# Altium integrated library USB-RIAA.IntLib: 37 symbols
Pins are listed as number, name and electrical type; pins without a type are passive.

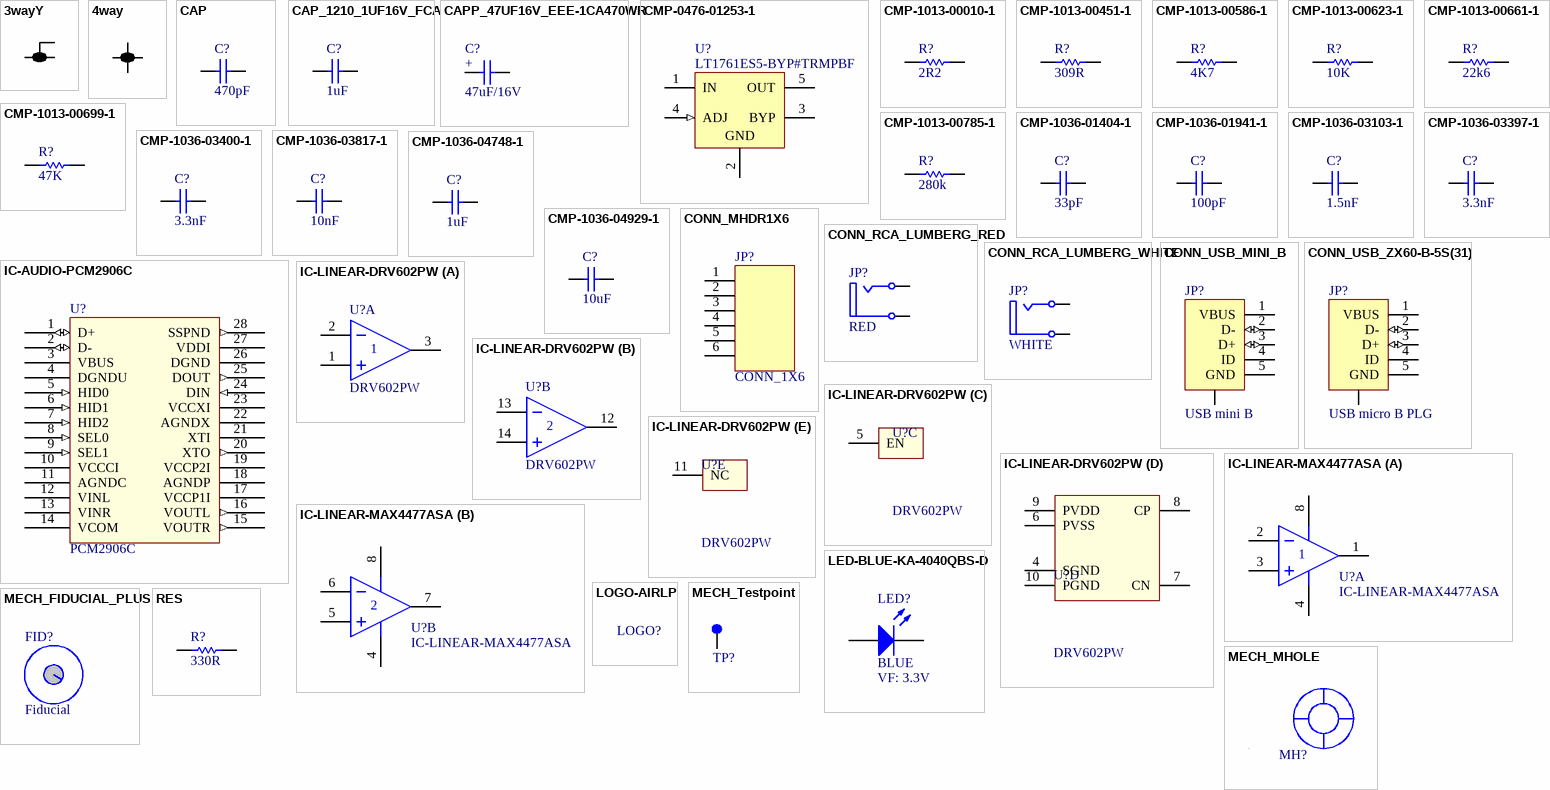
[diagram p0: symbols 3wayY to RES]

## 3wayY
designator J?, comment 3 way net tie junction Y shape  (value not drawn)  (net tie, no BOM)
ComponentLink1URL: http://www.edatools.cz/addons; ComponentLink1Description: Source; FootprintNote: LP=12mil, MP=40mil, HP=120mil
footprint 3wayY_LP (3 way low power net tie Y shape junction)
footprint 3wayY_MP (3 way medium power net tie Y shape junction)
footprint 3wayY_HP (3 way high power power net tie Y shape junction)
pins: 1, 2, 3
1 alternate drawing of the same symbol

## 4way
designator J?, comment 4 way net tie junction  (value not drawn)  (net tie, no BOM)
Note: 2 display modes available; ComponentLink1URL: http://www.edatools.cz/addons; ComponentLink1Description: Source; FootprintNote: LP=12mil, MP=40mil, HP=120mil
footprint 4way_LP (4 way low power net tie junction)
footprint 4way_MP (4 way medium power net tie junction)
footprint 4way_HP (4 way high power power net tie junction)
pins: 1, 2, 3, 4
1 alternate drawing of the same symbol

## CAP
designator C?  value 470pF  (hidden comment: CAP)
Generic capacitor non polarised
footprint CAPC0402(1005)33_L (Chip Capacitor, Body 1.0x0.5mm, Height 0.33mm, IPC High Density)
footprint CAPC0402(1005)33_M (Chip Capacitor, Body 1.0x0.5mm, Height 0.33mm, IPC Low Density)
footprint CAPC0402(1005)33_N (Chip Capacitor, Body 1.0x0.5mm, Height 0.33mm, IPC Medium Density)
footprint CAPC0603(1608)55_L (Chip Capacitor, Body 1.6x0.8mm, Height 0.55mm, IPC High Density)
footprint CAPC0603(1608)55_N (Chip Capacitor, Body 1.6x0.8mm, Height 0.55mm, IPC Medium Density)
footprint CAPC0603(1608)55_M (Chip Capacitor, Body 1.6x0.8mm, Height 0.55mm, IPC Low Density)
footprint CAPC0805(2012)75_L (Chip Capacitor, Body 2.0x1.2mm, Height 0.75mm, IPC High Density)
footprint CAPC0805(2012)75_M (Chip Capacitor, Body 2.0x1.2mm, Height 0.75mm, IPC Low Density)
footprint CAPC0805(2012)75_N (Chip Capacitor, Body 2.0x1.2mm, Height 0.75mm, IPC Medium Density)
footprint CAPC1206(3216)75_L (Chip Capacitor, Body 3.2x1.6mm, Height 0.75mm, IPC High Density)
footprint CAPC1206(3216)75_M (Chip Capacitor, Body 3.2x1.6mm, Height 0.75mm, IPC Low Density)
footprint CAPC1206(3216)75_N (Chip Capacitor, Body 3.2x1.6mm, Height 0.75mm, IPC Medium Density)
footprint CAPC1210(3225)345_L (Chip Capacitor, Body 3.2x2.5mm, Height 3.45mm, IPC High Density)
footprint CAPC1210(3225)345_M (Chip Capacitor, Body 3.2x2.5mm, Height 3.45mm, IPC Low Density)
footprint CAPC1210(3225)345_N (Chip Capacitor, Body 3.2x2.5mm, Height 3.45mm, IPC Medium Density)
pins: 1, 2
1 alternate drawing of the same symbol

## CAP_1210_1UF16V_FCA
designator C?, comment value 1uF  (hidden comment: FCA1210C105M-G2)
CAP FILM 1UF 20% 16VDC 1210; Voltage: 16V; PackageReference: 1210; FARNELL: 2112915; MPN: FCA1210C105M-G2; DigiKey: 338-2778-2-ND
footprint CAPC1210(3225)135_L (Chip Capacitor, Body 3.2x2.5mm, Height 1.35mm, IPC High Density)
footprint CAPC1210(3225)135_M (Chip Capacitor, Body 3.2x2.5mm, Height 1.35mm, IPC Low Density)
footprint CAPC1210(3225)135_N (Chip Capacitor, Body 3.2x2.5mm, Height 1.35mm, IPC Medium Density)
pins: 1, 2

## CAPP_47UF16V_EEE-1CA470WR
designator C?, comment 47uF/16V
47µF 16V Aluminum Electrolytic Capacitors Radial, Can - SMD 1000 Hrs @ 85°C; MPN: EEE-1CA470WR; Value: 47uF/16V; Farnell: 2753042; DigiKey: PCE3890TR-ND
footprint CAPP_5x5.4 (CAPP 5 x 5.4 mm)
pins: 1, 2
text: +

## CMP-0476-01253-1
designator U?, comment LT1761ES5-BYP#TRMPBF
100 mA, Low Noise, LDO Micropower Regulator, 1.8 to 20 V Vin, Adjustable Vout, 5-pin SOT23 (S5-5), -40 to 125 degC, Pb-Free, Mini Tape and Reel; Manufacturer: Linear Technology; Vin Min(V): 1.8; Output Voltage: Adj; PSRR(dB): 65; Dropout Voltage(V): 0.3; Vout Max(V): 20; Vout Min(V): 1.22; Isupply(mA): 0.02; Shutdown Current(uA): 1; Discrete Pass Element: no; Iout(mA): 100; PackageReference: S5-5; ComponentLink3Description: Package Specification; Packing: Mini Tape and Reel; ComponentLink2Description: Datasheet; RoHS: TRUE; Code_JEDEC: MO-193; ComponentLink2URL: http://cds.linear.com/docs/en/datasheet/1761sff.pdf; ComponentLink1Description: Manufacturer URL; Mounting Technology: Surface Mount; Number of Outputs: 1; PackageDescription: 5-Pin Plastic TSOT-23, Body 1.63 x 2.90 mm, Pitch 0.95 mm; Vin Max(V): 20; DatasheetVersion: Rev. F; PartNumber: LT1761ES5-BYP#TRMPBF; ComponentLink3URL: http://cds.linear.com/docs/en/packaging/SOT_5_05-08-1635.pdf; ComponentLink1URL: http://www.linear.com/; PackageVersion: Jun-10; Noise(uV): 20
footprint LT-S5-5-TSOT-23_N (SOT23, 5-Leads, Body 2.90x1.63mm, Pitch 0.95mm, IPC Medium Density)
footprint LT-S5-5-TSOT-23_L (SOT23, 5-Leads, Body 2.90x1.63mm, Pitch 0.95mm, IPC High Density)
footprint LT-S5-5-TSOT-23_M (SOT23, 5-Leads, Body 2.90x1.63mm, Pitch 0.95mm, IPC Low Density)
pins: 1 IN (power) "Input. Power is supplied to the device through the IN pin. A bypass capacitor is required on this pin if the device is more than six inches away from the main input filter capacitor. In general, the output impedance of a (See Datasheet)", 2 GND (power) "Ground.", 3 BYP, 4 ADJ (in), 5 OUT (power)

## CMP-1013-00010-1
designator R?, comment value 2R2  (hidden comment: 2R2 5% 0805(2012))
2R2 0.125W 5% 0805 (2012 Metric)  SMD; Case-Metric: 2012; Case-EIA: 0805; Technology: SMT; Tolerance: 5 %; Power: 0.125 W
footprint RESC0805(2012)_L (Chip Resistor, Body 2.0x1.3mm, IPC High Density)
footprint RESC0805(2012)_M (Chip Resistor, Body 2.0x1.3mm, IPC Low Density)
footprint RESC0805(2012)_N (Chip Resistor, Body 2.0x1.3mm, IPC Medium Density)
pins: 1, 2
1 alternate drawing of the same symbol

## CMP-1013-00451-1
designator R?, comment value 309R  (hidden comment: 309R 1% 0805(2012))
309R 0.125W 1% 0805 (2012 Metric)  SMD; Case-EIA: 0805; Case-Metric: 2012; Technology: SMT; Tolerance: 1 %; Power: 0.125 W
footprint RESC0805(2012)_N (Chip Resistor, Body 2.0x1.3mm, IPC Medium Density)
footprint RESC0805(2012)_M (Chip Resistor, Body 2.0x1.3mm, IPC Low Density)
footprint RESC0805(2012)_L (Chip Resistor, Body 2.0x1.3mm, IPC High Density)
pins: 1, 2
1 alternate drawing of the same symbol

## CMP-1013-00586-1
designator R?, comment value 4K7  (hidden comment: 4K7 1% 0805(2012))
4K7 0.125W 1% 0805 (2012 Metric)  SMD; Case-Metric: 2012; Case-EIA: 0805; Technology: SMT; Power: 0.125 W; Tolerance: 1 %
footprint RESC0805(2012)_M (Chip Resistor, Body 2.0x1.3mm, IPC Low Density)
footprint RESC0805(2012)_L (Chip Resistor, Body 2.0x1.3mm, IPC High Density)
footprint RESC0805(2012)_N (Chip Resistor, Body 2.0x1.3mm, IPC Medium Density)
pins: 1, 2
1 alternate drawing of the same symbol

## CMP-1013-00623-1
designator R?, comment value 10K  (hidden comment: 10K 1% 0805(2012))
10K 0.125W 1% 0805 (2012 Metric)  SMD; Case-Metric: 2012; Case-EIA: 0805; Tolerance: 1 %; Power: 0.125 W; Technology: SMT
footprint RESC0805(2012)_M (Chip Resistor, Body 2.0x1.3mm, IPC Low Density)
footprint RESC0805(2012)_N (Chip Resistor, Body 2.0x1.3mm, IPC Medium Density)
footprint RESC0805(2012)_L (Chip Resistor, Body 2.0x1.3mm, IPC High Density)
pins: 1, 2
1 alternate drawing of the same symbol

## CMP-1013-00661-1
designator R?, comment value 22k6  (hidden comment: 22K6 1% 0805(2012))
22K6 0.125W 1% 0805 (2012 Metric)  SMD; Case-Metric: 2012; Case-EIA: 0805; Tolerance: 1 %; Technology: SMT; Power: 0.125 W
footprint RESC0805(2012)_L (Chip Resistor, Body 2.0x1.3mm, IPC High Density)
footprint RESC0805(2012)_M (Chip Resistor, Body 2.0x1.3mm, IPC Low Density)
footprint RESC0805(2012)_N (Chip Resistor, Body 2.0x1.3mm, IPC Medium Density)
pins: 1, 2
1 alternate drawing of the same symbol

## CMP-1013-00699-1
designator R?, comment value 47K  (hidden comment: 47K 1% 0805(2012))
47K 0.125W 1% 0805 (2012 Metric)  SMD; Case-Metric: 2012; Case-EIA: 0805; Power: 0.125 W; Tolerance: 1 %; Technology: SMT
footprint RESC0805(2012)_N (Chip Resistor, Body 2.0x1.3mm, IPC Medium Density)
footprint RESC0805(2012)_M (Chip Resistor, Body 2.0x1.3mm, IPC Low Density)
footprint RESC0805(2012)_L (Chip Resistor, Body 2.0x1.3mm, IPC High Density)
pins: 1, 2
1 alternate drawing of the same symbol

## CMP-1013-00785-1
designator R?, comment value 280k  (hidden comment: 280K 1% 0805(2012))
280K 0.125W 1% 0805 (2012 Metric)  SMD; Case-EIA: 0805; Case-Metric: 2012; Tolerance: 1 %; Power: 0.125 W; Technology: SMT
footprint RESC0805(2012)_L (Chip Resistor, Body 2.0x1.3mm, IPC High Density)
footprint RESC0805(2012)_N (Chip Resistor, Body 2.0x1.3mm, IPC Medium Density)
footprint RESC0805(2012)_M (Chip Resistor, Body 2.0x1.3mm, IPC Low Density)
pins: 1, 2
1 alternate drawing of the same symbol

## CMP-1036-01404-1
designator C?, comment value 33pF  (hidden comment: CAP 33pF 16V 0805(2012))
CAP 33pF 16V ±1% 0805 (2012 Metric) Thickness 1mm SMD; Case-Metric: 2012; Case-EIA: 0805; Tolerance: Â±1%; Max Thickness: 1 mm; Technology: SMT; Rated Voltage: 16 V
footprint CAPC0805(2012)100_M (Chip Capacitor, Body 2.0x1.2mm, Height 1.0mm, IPC Low Density)
footprint CAPC0805(2012)100_L (Chip Capacitor, Body 2.0x1.2mm, Height 1.0mm, IPC High Density)
footprint CAPC0805(2012)100_N (Chip Capacitor, Body 2.0x1.2mm, Height 1.0mm, IPC Medium Density)
pins: 1, 2
1 alternate drawing of the same symbol

## CMP-1036-01941-1
designator C?, comment value 100pF  (hidden comment: CAP 100pF 16V 0805(2012))
CAP 100pF 16V ±5% 0805 (2012 Metric) Thickness 1mm SMD; Case-Metric: 2012; Tolerance: Â±5%; Case-EIA: 0805; Max Thickness: 1 mm; Technology: SMT; Rated Voltage: 16 V
footprint CAPC0805(2012)100_N (Chip Capacitor, Body 2.0x1.2mm, Height 1.0mm, IPC Medium Density)
footprint CAPC0805(2012)100_L (Chip Capacitor, Body 2.0x1.2mm, Height 1.0mm, IPC High Density)
footprint CAPC0805(2012)100_M (Chip Capacitor, Body 2.0x1.2mm, Height 1.0mm, IPC Low Density)
pins: 1, 2
1 alternate drawing of the same symbol

## CMP-1036-03103-1
designator C?, comment value 1.5nF  (hidden comment: CAP 1.5nF 16V 0805(2012))
CAP 1.5nF 16V ±10% 0805 (2012 Metric) Thickness 1.45mm SMD; Case-EIA: 0805; Case-Metric: 2012; Tolerance: Â±10%; Technology: SMT; Max Thickness: 1.45 mm; Rated Voltage: 16 V
footprint CAPC0805(2012)145_M (Chip Capacitor, Body 2.0x1.2mm, Height 1.45mm, IPC Low Density)
footprint CAPC0805(2012)145_L (Chip Capacitor, Body 2.0x1.2mm, Height 1.45mm, IPC High Density)
footprint CAPC0805(2012)145_N (Chip Capacitor, Body 2.0x1.2mm, Height 1.45mm, IPC Medium Density)
pins: 1, 2
1 alternate drawing of the same symbol

## CMP-1036-03397-1
designator C?, comment value 3.3nF  (hidden comment: CAP 3.3nF 16V 0805(2012))
CAP 3.3nF 16V ±1% 0805 (2012 Metric) Thickness 1mm SMD; Tolerance: Â±1%; Case-EIA: 0805; Case-Metric: 2012; Max Thickness: 1 mm; Rated Voltage: 16 V; Technology: SMT
footprint CAPC0805(2012)100_M (Chip Capacitor, Body 2.0x1.2mm, Height 1.0mm, IPC Low Density)
footprint CAPC0805(2012)100_L (Chip Capacitor, Body 2.0x1.2mm, Height 1.0mm, IPC High Density)
footprint CAPC0805(2012)100_N (Chip Capacitor, Body 2.0x1.2mm, Height 1.0mm, IPC Medium Density)
pins: 1, 2
1 alternate drawing of the same symbol

## CMP-1036-03400-1
designator C?, comment value 3.3nF  (hidden comment: CAP 3.3nF 16V 0805(2012))
CAP 3.3nF 16V ±5% 0805 (2012 Metric) Thickness 1.45mm SMD; Tolerance: Â±5%; Case-Metric: 2012; Case-EIA: 0805; Technology: SMT; Rated Voltage: 16 V; Max Thickness: 1.45 mm
footprint CAPC0805(2012)145_M (Chip Capacitor, Body 2.0x1.2mm, Height 1.45mm, IPC Low Density)
footprint CAPC0805(2012)145_L (Chip Capacitor, Body 2.0x1.2mm, Height 1.45mm, IPC High Density)
footprint CAPC0805(2012)145_N (Chip Capacitor, Body 2.0x1.2mm, Height 1.45mm, IPC Medium Density)
pins: 1, 2
1 alternate drawing of the same symbol

## CMP-1036-03817-1
designator C?, comment value 10nF  (hidden comment: CAP 10nF 16V 0805(2012))
CAP 10nF 16V ±5% 0805 (2012 Metric) Thickness 1.45mm SMD; Case-EIA: 0805; Case-Metric: 2012; Tolerance: Â±5%; Technology: SMT; Rated Voltage: 16 V; Max Thickness: 1.45 mm
footprint CAPC0805(2012)145_N (Chip Capacitor, Body 2.0x1.2mm, Height 1.45mm, IPC Medium Density)
footprint CAPC0805(2012)145_L (Chip Capacitor, Body 2.0x1.2mm, Height 1.45mm, IPC High Density)
footprint CAPC0805(2012)145_M (Chip Capacitor, Body 2.0x1.2mm, Height 1.45mm, IPC Low Density)
pins: 1, 2
1 alternate drawing of the same symbol

## CMP-1036-04748-1
designator C?, comment value 1uF  (hidden comment: CAP 1uF 16V 0805(2012))
CAP 1uF 16V ±20% 0805 (2012 Metric) Thickness 1.45mm SMD; Tolerance: Â±20%; Case-Metric: 2012; Case-EIA: 0805; Technology: SMT; Rated Voltage: 16 V; Max Thickness: 1.45 mm
footprint CAPC0805(2012)145_M (Chip Capacitor, Body 2.0x1.2mm, Height 1.45mm, IPC Low Density)
footprint CAPC0805(2012)145_N (Chip Capacitor, Body 2.0x1.2mm, Height 1.45mm, IPC Medium Density)
footprint CAPC0805(2012)145_L (Chip Capacitor, Body 2.0x1.2mm, Height 1.45mm, IPC High Density)
pins: 1, 2
1 alternate drawing of the same symbol

## CMP-1036-04929-1
designator C?, comment value 10uF  (hidden comment: CAP 10uF 16V 0805(2012))
CAP 10uF 16V ±20% 0805 (2012 Metric) Thickness 1.45mm SMD; Tolerance: Â±20%; Case-EIA: 0805; Case-Metric: 2012; Rated Voltage: 16 V; Technology: SMT; Max Thickness: 1.45 mm
footprint CAPC0805(2012)145_M (Chip Capacitor, Body 2.0x1.2mm, Height 1.45mm, IPC Low Density)
footprint CAPC0805(2012)145_L (Chip Capacitor, Body 2.0x1.2mm, Height 1.45mm, IPC High Density)
footprint CAPC0805(2012)145_N (Chip Capacitor, Body 2.0x1.2mm, Height 1.45mm, IPC Medium Density)
pins: 1, 2
1 alternate drawing of the same symbol

## CONN_MHDR1X6
designator JP?, comment CONN_1X6
Header, 6-Pin
footprint CONN_HDR1X6_RA (Connector; Header; 6 Position)
footprint CONN_HDR1X6_O1 (Connector; Header; 6 Position)
pins: 1, 2, 3, 4, 5, 6

## CONN_RCA_LUMBERG_RED
designator JP?, comment value RED  (hidden comment: RCA RED)
RCA panel-mount socket red, 1553 02 rot, Lumberg Connect GmbH; ELFA: 300-68-374; MPN: 1553 02 rot
footprint CONN_RCA-Lumberg-Red (RCA)
signal-integrity model RCA
pins: 1 Ground (power) "Outer Shield (Sleeve)", 4 Signal "Center Pin (Plug Tip)"

## CONN_RCA_LUMBERG_WHITE
designator JP?, comment value WHITE  (hidden comment: RCA WHITE)
RCA panel-mount socket white, 1553 02 weiss, Lumberg Connect GmbH; ELFA: 300-68-376; MPN: 1553 02 weiss; Farnell: 2472276
footprint CONN_RCA-Lumberg-White (RCA)
signal-integrity model RCA
pins: 1 Ground (power) "Outer Shield (Sleeve)", 4 Signal "Center Pin (Plug Tip)"

## CONN_USB_MINI_B
designator JP?, comment USB mini B
CONN RECEPT USB 5POS RT ANG PCB; MPN: 0565790519; DigiKey: WM17121-ND; Farnell: 1125347
footprint CONN_USB_MINI_B (CONN RECEPT USB 5POS RT ANG PCB)
pins: 1 VBUS (power), 2 D- (io), 3 D+ (io), 4 ID, 5 GND (power), CHS

## CONN_USB_ZX60-B-5S(31)
designator JP?, comment USB micro B PLG
USB Connectors 5P F R/A MICRO-B PLG 5P F R/A MICRO-B PLG; MPN: ZX60-B-5S(31)
footprint CONN-USB-MICRO-B-PLUG (ZX60-B-5S(31))
pins: 0 CHS, 1 VBUS (power), 2 D- (io), 3 D+ (io), 4 ID, 5 GND (power)

## IC-AUDIO-PCM2906C
designator U?, comment PCM2906C
IC STEREO AUD CODEC W/USB 28SSOP
footprint SSOP28_N (SOP, 28-Leads, Body 10.2x5.3mm, Pitch 0.65mm, IPC Medium Density)
footprint SSOP28_M (SOP, 28-Leads, Body 10.2x5.3mm, Pitch 0.65mm, IPC Low Density)
footprint SSOP28_L (SOP, 28-Leads, Body 10.2x5.3mm, Pitch 0.65mm, IPC High Density)
pins: 1 D+ (io), 2 D- (io), 3 VBUS (power), 4 DGNDU (power), 5 HID0 (in), 6 HID1 (in), 7 HID2 (in), 8 SEL0 (in), 9 SEL1 (in), 10 VCCCI (power), 11 AGNDC (power), 12 VINL, 13 VINR, 14 VCOM, 15 VOUTR (out), 16 VOUTL (out), 17 VCCP1I (power), 18 AGNDP (power), 19 VCCP2I (power), 20 XTO (out), 21 XTI, 22 AGNDX (power), 23 VCCXI (power), 24 DIN (in), 25 DOUT (out), 26 DGND (power), 27 VDDI (power), 28 SSPND (out)

## IC-LINEAR-DRV602PW
designator U?, comment DRV602PW
Amplifier IC 2-Channel (Stereo) Class AB 14-TSSOP; Farnell: 1710798; MPN: DRV602PW; DigiKey: 296-24081-1-ND
footprint TSSOP14_L (TSOP, 14-Leads, Body 6.5x4.4mm, Pitch 0.65mm, IPC High Density)
footprint TSSOP14_M (TSOP, 14-Leads, Body 6.5x4.4mm, Pitch 0.65mm, IPC Low Density)
footprint TSSOP14_N (TSOP, 14-Leads, Body 6.5x4.4mm, Pitch 0.65mm, IPC Medium Density)
part A pins: 1 IN1+, 2 IN1-, 3 OUT1
part B pins: 12 OUT2, 13 IN2-, 14 IN2+
part C pins: 5 EN
part D pins: 4 SGND (power), 6 PVSS (power), 7 CN (power), 8 CP (power), 9 PVDD (power), 10 PGND (power)
part E pins: 11 NC

## IC-LINEAR-MAX4477ASA
designator U?
Dual Rail-to-Rail output  Low-Power Operational Amplifier; MPN: MAX4477ASA+; Farnell: 1550527
footprint SOIC8_N (SOIC, 8-Leads, Body 4.9x3.9mm, Pitch 1.27mm, IPC Medium Density)
footprint SOIC8_M (SOIC, 8-Leads, Body 4.9x3.9mm, Pitch 1.27mm, IPC Low Density)
footprint SOIC8_L (SOIC, 8-Leads, Body 4.9x3.9mm, Pitch 1.27mm, IPC High Density)
pins on every part: 4 V- (power), 8 V+ (power)
part A pins: 1 OUT1, 2 IN1-, 3 IN1+
part B pins: 5 IN2+, 6 IN2-, 7 OUT2

## LED-BLUE-KA-4040QBS-D
designator LED?, comment BLUE  VF: 3.3V
LED 0805; MPN: KA-4040QBS-D; VALUE: BLUE; Farnell: 2079906
footprint LED-KA-4040QBS-D
pins: A, K

## LOGO-AIRLP
designator LOGO?  (value not drawn)
LOGO AIR LP
footprint LOGO-AIR-LP

## MECH_FIDUCIAL_PLUS
designator FID?, comment Fiducial  (no BOM)
footprint MECH_FID_PLUS (FIDUCIAL 1.2MM ROUND)
footprint MECH_FID_RND_120 (FIDUCIAL 1.2MM ROUND)
footprint MECH_FID_PLUS-2 (FIDUCIAL 1.2MM ROUND)

## MECH_MHOLE
designator MH?, comment Mounting hole  (value not drawn)
footprint MECH_MHOLE_3.5 (Mounting hole 3.5mm)
footprint MECH_MHOLE_M2.5 (Mounting hole M2.5)
footprint MECH_MHOLE_M3 (Mounting hole M3)
footprint MECH_MHOLE_M4 (Mounting hole M4)
footprint MECH_MHOLE_T1.6 (Mounting hole T1.6, 2mm)
footprint MECH_MHOLE_M3_cutout (Mounting hole M3)
footprint MECH_MHOLE_M3_SCREW (Mounting hole M3)
footprint MECH_MHOLE_RPi0 (Mounting hole M2.5)

## MECH_Testpoint
designator TP?  (value not drawn)
Testpoint
footprint MECH_TP_39_mil
footprint MECH_TP_0.5_mm
pins: 1 Pin1

## RES
designator R?  value 330R  (hidden comment: RES)
Generic resistor
footprint RESC0402(1005)_L (Chip Resistor, Body 1.0x0.5mm, IPC High Density)
footprint RESC0402(1005)_M (Chip Resistor, Body 1.0x0.5mm, IPC Low Density)
footprint RESC0402(1005)_N (Chip Resistor, Body 1.0x0.5mm, IPC Medium Density)
footprint RESC0603(1608)_L (Chip Resistor, Body 1.6x0.8mm, IPC High Density)
footprint RESC0603(1608)_M (Chip Resistor, Body 1.6x0.8mm, IPC Low Density)
footprint RESC0603(1608)_N (Chip Resistor, Body 1.6x0.8mm, IPC Medium Density)
footprint RESC0805(2012)_L (Chip Resistor, Body 2.0x1.3mm, IPC High Density)
footprint RESC0805(2012)_M (Chip Resistor, Body 2.0x1.3mm, IPC Low Density)
footprint RESC0805(2012)_N (Chip Resistor, Body 2.0x1.3mm, IPC Medium Density)
footprint RESC1206(3216)_L (Chip Resistor, Body 3.2x1.6mm, IPC High Density)
footprint RESC1206(3216)_M (Chip Resistor, Body 3.2x1.6mm, IPC Low Density)
footprint RESC1206(3216)_N (Chip Resistor, Body 3.2x1.6mm, IPC Medium Density)
footprint RESC1210(3225)_L (Chip Resistor, Body 3.2x2.5mm, IPC High Density)
footprint RESC1210(3225)_M (Chip Resistor, Body 3.2x2.5mm, IPC Low Density)
footprint RESC1210(3225)_N (Chip Resistor, Body 3.2x2.5mm, IPC Medium Density)
footprint RESC1812(4532)_L (Chip Resistor, Body 4.5x3.2mm, IPC High Density)
footprint RESC1812(4532)_M (Chip Resistor, Body 4.5x3.2mm, IPC Low Density)
footprint RESC1812(4532)_N (Chip Resistor, Body 4.5x3.2mm, IPC Medium Density)
footprint RESC2010(5025)_L (Chip Resistor, Body 5.0x2.5mm, IPC High Density)
footprint RESC2010(5025)_M (Chip Resistor, Body 5.0x2.5mm, IPC Low Density)
footprint RESC2010(5025)_N (Chip Resistor, Body 5.0x2.5mm, IPC Medium Density)
footprint RESC2512(6432)_L (Chip Resistor, Body 6.4x3.2mm, IPC High Density)
footprint RESC2512(6432)_M (Chip Resistor, Body 6.4x3.2mm, IPC Low Density)
footprint RESC2512(6432)_N (Chip Resistor, Body 6.4x3.2mm, IPC Medium Density)
pins: 1, 2

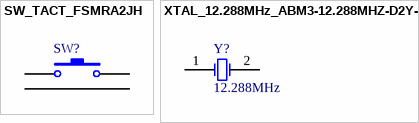
[diagram p1: symbols SW_TACT_FSMRA2JH to XTAL_12.288MHz_ABM3-12.288MHZ-D2Y-T]

## SW_TACT_FSMRA2JH
designator SW?  (value not drawn)
SWITCH TACTILE SPST-NO 0.05A 12V; ELFA: 35-665-57; DigiKey: 450-1662-ND; Farnell: 1555987; MPN: FSMRA2JH
footprint SW_FSMRA2JH (Switch; 2 Leads)
pins: 1, 2, 3, 4

## XTAL_12.288MHz_ABM3-12.288MHZ-D2Y-T
designator Y?, comment value 12.288MHz  (hidden comment: ABM3-12.288MHZ-D2Y-T)
CRYSTAL 12.288MHZ 18PF SMD; Farnell: 1368769; MPN: ABM3-12.288MHZ-D2Y-T; DigiKey: 535-10635-1-ND
footprint XTAL_SMD_5.0x3.2
pins: 1 OSC1, 2 OSC2